# EAGLE library part RSNS2512 (library R2512SNS)
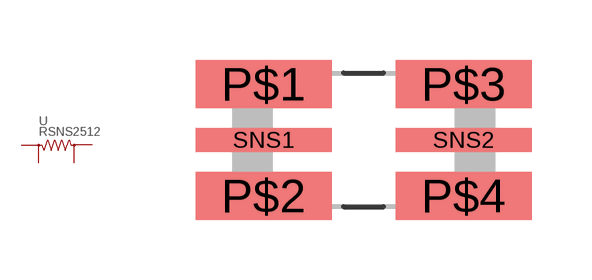
[diagram p0: symbol with the pads of 2512SENSE; footprint 2512SENSE]

Designator prefix -

## RSNS2512  [2512SENSE]
P$1  P$1
P$2  P$2
P$3  P$3
P$4  P$4
SNS1  SNS1
SNS2  SNS2

## Footprint 2512SENSE (pad centres in mm)
smd 3.4 x 1.2: P$1 -2.5,1.4; P$2 -2.5,-1.4; P$3 2.5,1.4; P$4 2.5,-1.4
smd 3.4 x 0.6: SNS1 -2.5,0; SNS2 2.5,0